# Altium integrated library TI Amplifiers and Linear Operational Amplifier High Speed.IntLib: 1100 symbols (part 13 of 44)
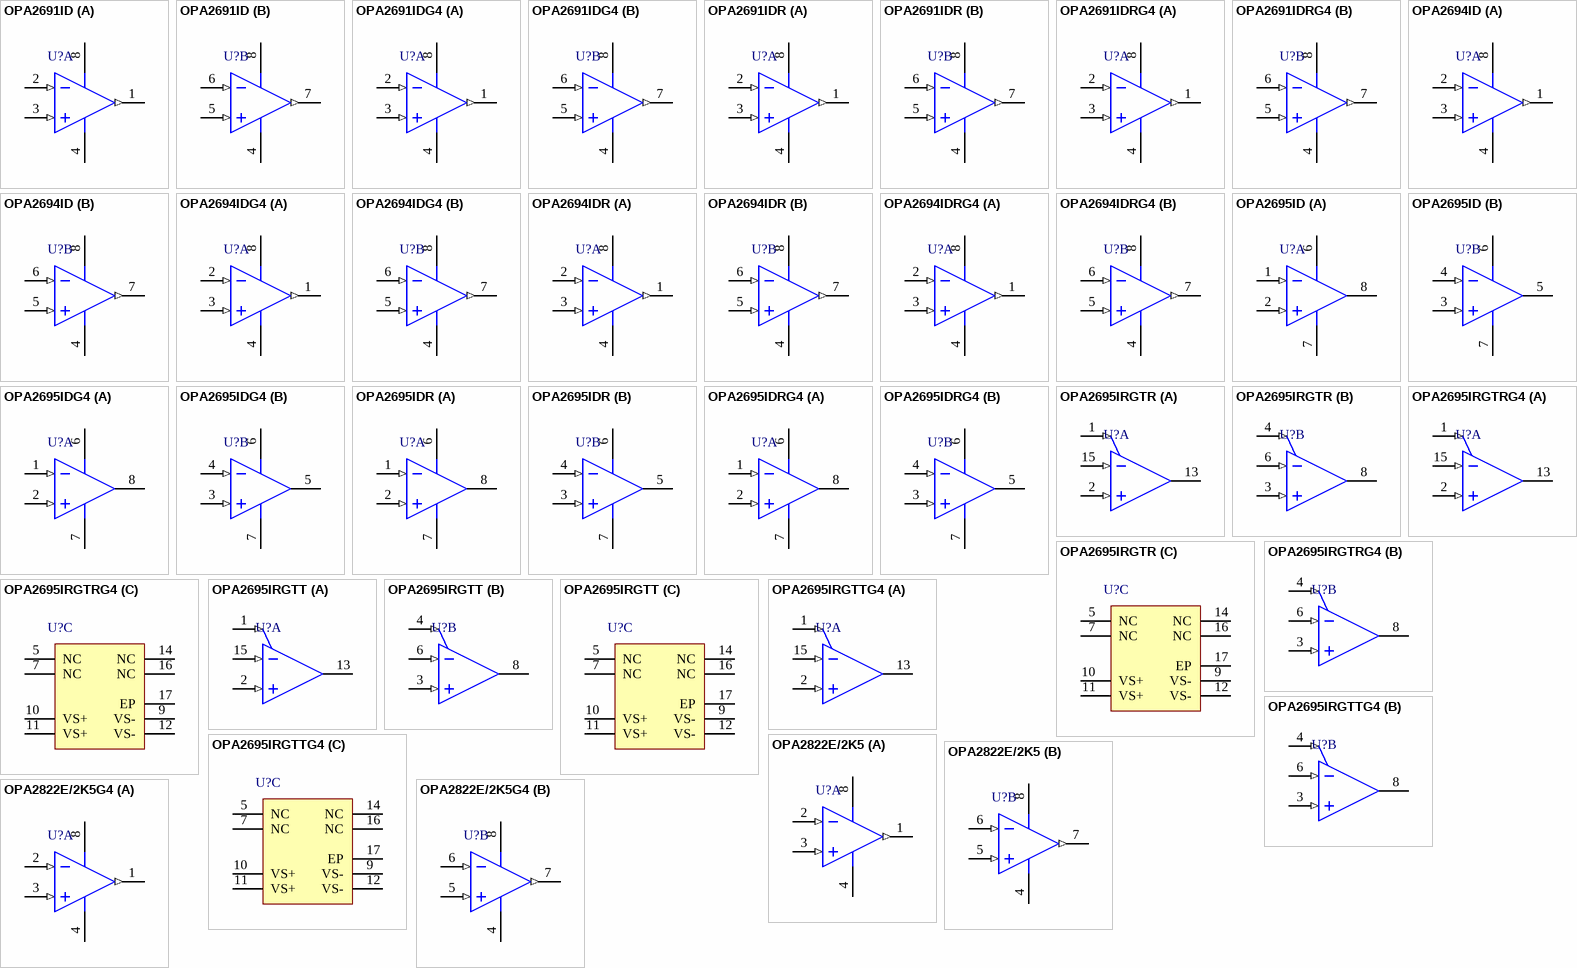
[diagram p63: symbols OPA2691ID to OPA2822E/2K5G4]

## OPA2695IDG4
designator U?
Ultra-Wideband, Current-Feedback Operational Amplifier with Disable, 3.6 to 12 V, -40 to 85 degC, 8-pin SOIC (D8), Green (RoHS & no Sb/Br); Manufacturer: Texas Instruments; PartNumber: OPA2695IDG4; 2nd Harmonic(dBc): 78; 3rd Harmonic(dBc): 81; @ MHz: 10; Acl, min stable gain(V/V): 1; BW @ Acl(MHz): 1100; Diff Gain(%): 0.01; Diff Phase(deg): 0.05; Iib(Max)(nA): 30000; Io(Typ)(mA): 120; Iq per channel(Max)(mA): 13.4; Number of Channels: 2; Slew Rate(Typ)(V/us): 2900; Sub Family: High Output Current Amplifier (>=50mA), High Speed Amplifier (>=50MHz); Vio(Max)(mV): 3.5; Vn at Flatband(Typ)(nV/rtHz): 1.8; Vs(Max)(V): 12; Vs(Min)(V): 3.6; DatasheetVersion: SBOS354A; PackageVersion: 4040047-3/M, 06/2011; PackageReference: D8; PackageDescription: 8-Pin Plastic Small Outline, Body 4.9 x 3.9 mm, Pitch 1.27 mm; Supplier 1: Digi-Key; Supplier Part Number 1: OPA2695IDG4-ND; Supplier 2: Mouser; Supplier Part Number 2: 595-OPA2695IDG4; Eco-Plan: Green (RoHS & no Sb/Br); Settling Time (0.1%)(Typ)(ns): 10; Mounting Technology: Surface Mount; Code_JEDEC: MS-012; ComponentLink1Description: Manufacturer URL; ComponentLink1URL: http://www.ti.com/; ComponentLink2Description: Datasheet; ComponentLink2URL: http://www.ti.com/general/docs/lit/getliterature.tsp?genericPartNumber=OPA2695&fileType=pdf; ComponentLink3Description: Package Specification; ComponentLink3URL: http://www.ti.com/litv/pdf/msoi002j
footprint TI-D8_N (SOIC, 8-Leads, Body 4.9x3.9mm, Pitch 1.27mm, IPC Medium Density)
footprint TI-D8_L (SOIC, 8-Leads, Body 4.9x3.9mm, Pitch 1.27mm, IPC High Density)
footprint TI-D8_M (SOIC, 8-Leads, Body 4.9x3.9mm, Pitch 1.27mm, IPC Low Density)
pins on every part: 6 VS+ (power), 7 VS- (power)
part A pins: 1 IN A- (in), 2 IN A+ (in), 8 OUT A (hiz)
part B pins: 3 IN B+ (in), 4 IN B- (in), 5 OUT B (hiz)

## OPA2695IDR
designator U?
Ultra-Wideband, Current-Feedback Operational Amplifier with Disable, 3.6 to 12 V, -40 to 85 degC, 8-pin SOIC (D8), Green (RoHS & no Sb/Br); Manufacturer: Texas Instruments; PartNumber: OPA2695IDR; 2nd Harmonic(dBc): 78; 3rd Harmonic(dBc): 81; @ MHz: 10; Acl, min stable gain(V/V): 1; BW @ Acl(MHz): 1100; Diff Gain(%): 0.01; Diff Phase(deg): 0.05; Iib(Max)(nA): 30000; Io(Typ)(mA): 120; Iq per channel(Max)(mA): 13.4; Number of Channels: 2; Slew Rate(Typ)(V/us): 2900; Sub Family: High Output Current Amplifier (>=50mA), High Speed Amplifier (>=50MHz); Vio(Max)(mV): 3.5; Vn at Flatband(Typ)(nV/rtHz): 1.8; Vs(Max)(V): 12; Vs(Min)(V): 3.6; DatasheetVersion: SBOS354A; PackageVersion: 4040047-3/M, 06/2011; PackageReference: D8; PackageDescription: 8-Pin Plastic Small Outline, Body 4.9 x 3.9 mm, Pitch 1.27 mm; Supplier 1: Digi-Key; Supplier Part Number 1: OPA2695IDR-ND; Supplier 2: Mouser; Supplier Part Number 2: 595-OPA2695IDR; Eco-Plan: Green (RoHS & no Sb/Br); Settling Time (0.1%)(Typ)(ns): 10; Mounting Technology: Surface Mount; Code_JEDEC: MS-012; ComponentLink1Description: Manufacturer URL; ComponentLink1URL: http://www.ti.com/; ComponentLink2Description: Datasheet; ComponentLink2URL: http://www.ti.com/general/docs/lit/getliterature.tsp?genericPartNumber=OPA2695&fileType=pdf; ComponentLink3Description: Package Specification; ComponentLink3URL: http://www.ti.com/litv/pdf/msoi002j
footprint TI-D8_N (SOIC, 8-Leads, Body 4.9x3.9mm, Pitch 1.27mm, IPC Medium Density)
footprint TI-D8_L (SOIC, 8-Leads, Body 4.9x3.9mm, Pitch 1.27mm, IPC High Density)
footprint TI-D8_M (SOIC, 8-Leads, Body 4.9x3.9mm, Pitch 1.27mm, IPC Low Density)
pins on every part: 6 VS+ (power), 7 VS- (power)
part A pins: 1 IN A- (in), 2 IN A+ (in), 8 OUT A (hiz)
part B pins: 3 IN B+ (in), 4 IN B- (in), 5 OUT B (hiz)

## OPA2695IDRG4
designator U?
Ultra-Wideband, Current-Feedback Operational Amplifier with Disable, 3.6 to 12 V, -40 to 85 degC, 8-pin SOIC (D8), Green (RoHS & no Sb/Br); Manufacturer: Texas Instruments; PartNumber: OPA2695IDRG4; 2nd Harmonic(dBc): 78; 3rd Harmonic(dBc): 81; @ MHz: 10; Acl, min stable gain(V/V): 1; BW @ Acl(MHz): 1100; Diff Gain(%): 0.01; Diff Phase(deg): 0.05; Iib(Max)(nA): 30000; Io(Typ)(mA): 120; Iq per channel(Max)(mA): 13.4; Number of Channels: 2; Slew Rate(Typ)(V/us): 2900; Sub Family: High Output Current Amplifier (>=50mA), High Speed Amplifier (>=50MHz); Vio(Max)(mV): 3.5; Vn at Flatband(Typ)(nV/rtHz): 1.8; Vs(Max)(V): 12; Vs(Min)(V): 3.6; DatasheetVersion: SBOS354A; PackageVersion: 4040047-3/M, 06/2011; PackageReference: D8; PackageDescription: 8-Pin Plastic Small Outline, Body 4.9 x 3.9 mm, Pitch 1.27 mm; Supplier 1: Digi-Key; Supplier Part Number 1: OPA2695IDRG4-ND; Supplier 2: Mouser; Supplier Part Number 2: 595-OPA2695IDRG4; Eco-Plan: Green (RoHS & no Sb/Br); Settling Time (0.1%)(Typ)(ns): 10; Mounting Technology: Surface Mount; Code_JEDEC: MS-012; ComponentLink1Description: Manufacturer URL; ComponentLink1URL: http://www.ti.com/; ComponentLink2Description: Datasheet; ComponentLink2URL: http://www.ti.com/general/docs/lit/getliterature.tsp?genericPartNumber=OPA2695&fileType=pdf; ComponentLink3Description: Package Specification; ComponentLink3URL: http://www.ti.com/litv/pdf/msoi002j
footprint TI-D8_N (SOIC, 8-Leads, Body 4.9x3.9mm, Pitch 1.27mm, IPC Medium Density)
footprint TI-D8_L (SOIC, 8-Leads, Body 4.9x3.9mm, Pitch 1.27mm, IPC High Density)
footprint TI-D8_M (SOIC, 8-Leads, Body 4.9x3.9mm, Pitch 1.27mm, IPC Low Density)
pins on every part: 6 VS+ (power), 7 VS- (power)
part A pins: 1 IN A- (in), 2 IN A+ (in), 8 OUT A (hiz)
part B pins: 3 IN B+ (in), 4 IN B- (in), 5 OUT B (hiz)

## OPA2695IRGTR
designator U?
Ultra-Wideband, Current-Feedback Operational Amplifier with Disable, 3.6 to 12 V, -40 to 85 degC, 16-pin QFN (RGT16), Green (RoHS & no Sb/Br); Manufacturer: Texas Instruments; PartNumber: OPA2695IRGTR; 2nd Harmonic(dBc): 78; 3rd Harmonic(dBc): 81; @ MHz: 10; Acl, min stable gain(V/V): 1; BW @ Acl(MHz): 1100; Diff Gain(%): 0.01; Diff Phase(deg): 0.05; Iib(Max)(nA): 30000; Io(Typ)(mA): 120; Iq per channel(Max)(mA): 13.4; Number of Channels: 2; Slew Rate(Typ)(V/us): 2900; Sub Family: High Output Current Amplifier (>=50mA), High Speed Amplifier (>=50MHz); Vio(Max)(mV): 3.5; Vn at Flatband(Typ)(nV/rtHz): 1.8; Vs(Max)(V): 12; Vs(Min)(V): 3.6; DatasheetVersion: SBOS354A; PackageVersion: 4203495/H, 10/2011; PackageReference: RGT16-1450X1450TP; PackageDescription: 16-Pin Plastic Flat Pack, Body 3 x 3 mm, Pitch 0.5 mm; Supplier 1: Digi-Key; Supplier Part Number 1: OPA2695IRGTR-ND; Supplier 2: Mouser; Supplier Part Number 2: 595-OPA2695IRGTR; Eco-Plan: Green (RoHS & no Sb/Br); Settling Time (0.1%)(Typ)(ns): 10; Mounting Technology: Surface Mount; Code_JEDEC: MO-220; ComponentLink1Description: Manufacturer URL; ComponentLink1URL: http://www.ti.com/; ComponentLink2Description: Datasheet; ComponentLink2URL: http://www.ti.com/general/docs/lit/getliterature.tsp?genericPartNumber=OPA2695&fileType=pdf; ComponentLink3Description: Package Specification; ComponentLink3URL: http://www.ti.com/litv/pdf/mpqf119g
footprint TI-RGT16-1450X1450TP_V (QFN, 16-Leads, Body 3x3mm, Pitch 0.5mm, Thermal Pad 1.45x1.45mm)
part A pins: 1 ~{DIS A} (in), 2 IN A+ (in), 13 OUT A (hiz), 15 IN A- (in)
part B pins: 3 IN B+ (in), 4 ~{DIS B} (in), 6 IN B- (in), 8 OUT B (hiz)
part C pins: 5 NC, 7 NC, 9 VS- (power), 10 VS+ (power), 11 VS+ (power), 12 VS- (power), 14 NC, 16 NC, 17 EP

## OPA2695IRGTRG4
designator U?
Ultra-Wideband, Current-Feedback Operational Amplifier with Disable, 3.6 to 12 V, -40 to 85 degC, 16-pin QFN (RGT16), Green (RoHS & no Sb/Br); Manufacturer: Texas Instruments; PartNumber: OPA2695IRGTRG4; 2nd Harmonic(dBc): 78; 3rd Harmonic(dBc): 81; @ MHz: 10; Acl, min stable gain(V/V): 1; BW @ Acl(MHz): 1100; Diff Gain(%): 0.01; Diff Phase(deg): 0.05; Iib(Max)(nA): 30000; Io(Typ)(mA): 120; Iq per channel(Max)(mA): 13.4; Number of Channels: 2; Slew Rate(Typ)(V/us): 2900; Sub Family: High Output Current Amplifier (>=50mA), High Speed Amplifier (>=50MHz); Vio(Max)(mV): 3.5; Vn at Flatband(Typ)(nV/rtHz): 1.8; Vs(Max)(V): 12; Vs(Min)(V): 3.6; DatasheetVersion: SBOS354A; PackageVersion: 4203495/H, 10/2011; PackageReference: RGT16-1450X1450TP; PackageDescription: 16-Pin Plastic Flat Pack, Body 3 x 3 mm, Pitch 0.5 mm; Supplier 1: Digi-Key; Supplier Part Number 1: OPA2695IRGTRG4-ND; Supplier 2: Mouser; Supplier Part Number 2: 595-OPA2695IRGTRG4; Eco-Plan: Green (RoHS & no Sb/Br); Settling Time (0.1%)(Typ)(ns): 10; Mounting Technology: Surface Mount; Code_JEDEC: MO-220; ComponentLink1Description: Manufacturer URL; ComponentLink1URL: http://www.ti.com/; ComponentLink2Description: Datasheet; ComponentLink2URL: http://www.ti.com/general/docs/lit/getliterature.tsp?genericPartNumber=OPA2695&fileType=pdf; ComponentLink3Description: Package Specification; ComponentLink3URL: http://www.ti.com/litv/pdf/mpqf119g
footprint TI-RGT16-1450X1450TP_V (QFN, 16-Leads, Body 3x3mm, Pitch 0.5mm, Thermal Pad 1.45x1.45mm)
part A pins: 1 ~{DIS A} (in), 2 IN A+ (in), 13 OUT A (hiz), 15 IN A- (in)
part B pins: 3 IN B+ (in), 4 ~{DIS B} (in), 6 IN B- (in), 8 OUT B (hiz)
part C pins: 5 NC, 7 NC, 9 VS- (power), 10 VS+ (power), 11 VS+ (power), 12 VS- (power), 14 NC, 16 NC, 17 EP

## OPA2695IRGTT
designator U?
Ultra-Wideband, Current-Feedback Operational Amplifier with Disable, 3.6 to 12 V, -40 to 85 degC, 16-pin QFN (RGT16), Green (RoHS & no Sb/Br); Manufacturer: Texas Instruments; PartNumber: OPA2695IRGTT; 2nd Harmonic(dBc): 78; 3rd Harmonic(dBc): 81; @ MHz: 10; Acl, min stable gain(V/V): 1; BW @ Acl(MHz): 1100; Diff Gain(%): 0.01; Diff Phase(deg): 0.05; Iib(Max)(nA): 30000; Io(Typ)(mA): 120; Iq per channel(Max)(mA): 13.4; Number of Channels: 2; Slew Rate(Typ)(V/us): 2900; Sub Family: High Output Current Amplifier (>=50mA), High Speed Amplifier (>=50MHz); Vio(Max)(mV): 3.5; Vn at Flatband(Typ)(nV/rtHz): 1.8; Vs(Max)(V): 12; Vs(Min)(V): 3.6; DatasheetVersion: SBOS354A; PackageVersion: 4203495/H, 10/2011; PackageReference: RGT16-1450X1450TP; PackageDescription: 16-Pin Plastic Flat Pack, Body 3 x 3 mm, Pitch 0.5 mm; Supplier 1: Digi-Key; Supplier Part Number 1: 296-23388-2-ND; Supplier 2: Digi-Key; Supplier Part Number 2: 296-23388-1-ND; Supplier 3: Digi-Key; Supplier Part Number 3: 296-23388-6-ND; Supplier 4: Mouser; Supplier Part Number 4: 595-OPA2695IRGTT; Eco-Plan: Green (RoHS & no Sb/Br); Settling Time (0.1%)(Typ)(ns): 10; Mounting Technology: Surface Mount; Code_JEDEC: MO-220; ComponentLink1Description: Manufacturer URL; ComponentLink1URL: http://www.ti.com/; ComponentLink2Description: Datasheet; ComponentLink2URL: http://www.ti.com/general/docs/lit/getliterature.tsp?genericPartNumber=OPA2695&fileType=pdf; ComponentLink3Description: Package Specification; ComponentLink3URL: http://www.ti.com/litv/pdf/mpqf119g
footprint TI-RGT16-1450X1450TP_V (QFN, 16-Leads, Body 3x3mm, Pitch 0.5mm, Thermal Pad 1.45x1.45mm)
part A pins: 1 ~{DIS A} (in), 2 IN A+ (in), 13 OUT A (hiz), 15 IN A- (in)
part B pins: 3 IN B+ (in), 4 ~{DIS B} (in), 6 IN B- (in), 8 OUT B (hiz)
part C pins: 5 NC, 7 NC, 9 VS- (power), 10 VS+ (power), 11 VS+ (power), 12 VS- (power), 14 NC, 16 NC, 17 EP

## OPA2695IRGTTG4
designator U?
Ultra-Wideband, Current-Feedback Operational Amplifier with Disable, 3.6 to 12 V, -40 to 85 degC, 16-pin QFN (RGT16), Green (RoHS & no Sb/Br); Manufacturer: Texas Instruments; PartNumber: OPA2695IRGTTG4; 2nd Harmonic(dBc): 78; 3rd Harmonic(dBc): 81; @ MHz: 10; Acl, min stable gain(V/V): 1; BW @ Acl(MHz): 1100; Diff Gain(%): 0.01; Diff Phase(deg): 0.05; Iib(Max)(nA): 30000; Io(Typ)(mA): 120; Iq per channel(Max)(mA): 13.4; Number of Channels: 2; Slew Rate(Typ)(V/us): 2900; Sub Family: High Output Current Amplifier (>=50mA), High Speed Amplifier (>=50MHz); Vio(Max)(mV): 3.5; Vn at Flatband(Typ)(nV/rtHz): 1.8; Vs(Max)(V): 12; Vs(Min)(V): 3.6; DatasheetVersion: SBOS354A; PackageVersion: 4203495/H, 10/2011; PackageReference: RGT16-1450X1450TP; PackageDescription: 16-Pin Plastic Flat Pack, Body 3 x 3 mm, Pitch 0.5 mm; Supplier 1: Digi-Key; Supplier Part Number 1: OPA2695IRGTTG4-ND; Supplier 2: Mouser; Supplier Part Number 2: 595-OPA2695IRGTTG4; Eco-Plan: Green (RoHS & no Sb/Br); Settling Time (0.1%)(Typ)(ns): 10; Mounting Technology: Surface Mount; Code_JEDEC: MO-220; ComponentLink1Description: Manufacturer URL; ComponentLink1URL: http://www.ti.com/; ComponentLink2Description: Datasheet; ComponentLink2URL: http://www.ti.com/general/docs/lit/getliterature.tsp?genericPartNumber=OPA2695&fileType=pdf; ComponentLink3Description: Package Specification; ComponentLink3URL: http://www.ti.com/litv/pdf/mpqf119g
footprint TI-RGT16-1450X1450TP_V (QFN, 16-Leads, Body 3x3mm, Pitch 0.5mm, Thermal Pad 1.45x1.45mm)
part A pins: 1 ~{DIS A} (in), 2 IN A+ (in), 13 OUT A (hiz), 15 IN A- (in)
part B pins: 3 IN B+ (in), 4 ~{DIS B} (in), 6 IN B- (in), 8 OUT B (hiz)
part C pins: 5 NC, 7 NC, 9 VS- (power), 10 VS+ (power), 11 VS+ (power), 12 VS- (power), 14 NC, 16 NC, 17 EP

## OPA2822E/2K5
designator U?
SpeedPlus Dual Wideband, Low-Noise Operational Amplifier, 5 to 12 V, -40 to 85 degC, 8-pin SOP (DGK8), Green (RoHS & no Sb/Br); Manufacturer: Texas Instruments; PartNumber: OPA2822E/2K5; 2nd Harmonic(dBc): 95; 3rd Harmonic(dBc): 105; @ MHz: 1; BW @ Acl(MHz): 200; Diff Gain(%): 0.02; Diff Phase(deg): 0.03; Iib(Max)(nA): 21000; Io(Typ)(mA): 150; Iq per channel(Max)(mA): 4.8; Number of Channels: 2; Settling Time (0.1%)(Typ)(ns): 32; Slew Rate(Typ)(V/us): 170; Sub Family: High Output Current Amplifier (>=50mA), High Speed Amplifier (>=50MHz); THD (Fc is 1 MHz)(Typ)(dB): -90; Vio(Max)(mV): 1.2; Vs(Max)(V): 12; Vs(Min)(V): 5; DatasheetVersion: SBOS188E; PackageVersion: 4073329/E, 05/2006; PackageReference: DGK8; PackageDescription: 8-Pin Thin Small Outline, Body 3 x 3 mm, Pitch 0.65 mm; Supplier 1: Digi-Key; Supplier Part Number 1: OPA2822E/2K5-ND; Supplier 2: Mouser; Supplier Part Number 2: 595-OPA2822E/2K5; Acl, min stable gain(V/V): 1; Eco-Plan: Green (RoHS & no Sb/Br); Vn at Flatband(Typ)(nV/rtHz): 2; Mounting Technology: Surface Mount; Code_JEDEC: MO-187; ComponentLink1Description: Manufacturer URL; ComponentLink1URL: http://www.ti.com/; ComponentLink2Description: Datasheet; ComponentLink2URL: http://www.ti.com/general/docs/lit/getliterature.tsp?genericPartNumber=OPA2822&fileType=pdf; ComponentLink3Description: Package Specification; ComponentLink3URL: http://www.ti.com/litv/pdf/mpds028d
footprint TI-DGK8_N (SOP, 8-Leads, Body 3x3mm, Pitch 0.65mm, IPC Medium Density)
footprint TI-DGK8_L (SOP, 8-Leads, Body 3x3mm, Pitch 0.65mm, IPC High Density)
footprint TI-DGK8_M (SOP, 8-Leads, Body 3x3mm, Pitch 0.65mm, IPC Low Density)
pins on every part: 4 VS- (power), 8 VS+ (power)
part A pins: 1 OUT A (out), 2 IN A- (in), 3 IN A+ (in)
part B pins: 5 IN B+ (in), 6 IN B- (in), 7 OUT B (out)

## OPA2822E/2K5G4
designator U?
SpeedPlus Dual Wideband, Low-Noise Operational Amplifier, 5 to 12 V, -40 to 85 degC, 8-pin SOP (DGK8), Green (RoHS & no Sb/Br); Manufacturer: Texas Instruments; PartNumber: OPA2822E/2K5G4; 2nd Harmonic(dBc): 95; 3rd Harmonic(dBc): 105; @ MHz: 1; BW @ Acl(MHz): 200; Diff Gain(%): 0.02; Diff Phase(deg): 0.03; Iib(Max)(nA): 21000; Io(Typ)(mA): 150; Iq per channel(Max)(mA): 4.8; Number of Channels: 2; Settling Time (0.1%)(Typ)(ns): 32; Slew Rate(Typ)(V/us): 170; Sub Family: High Output Current Amplifier (>=50mA), High Speed Amplifier (>=50MHz); THD (Fc is 1 MHz)(Typ)(dB): -90; Vio(Max)(mV): 1.2; Vs(Max)(V): 12; Vs(Min)(V): 5; DatasheetVersion: SBOS188E; PackageVersion: 4073329/E, 05/2006; PackageReference: DGK8; PackageDescription: 8-Pin Thin Small Outline, Body 3 x 3 mm, Pitch 0.65 mm; Supplier 1: Digi-Key; Supplier Part Number 1: OPA2822E/2K5G4-ND; Supplier 2: Mouser; Supplier Part Number 2: 595-OPA2822E/2K5G4; Acl, min stable gain(V/V): 1; Eco-Plan: Green (RoHS & no Sb/Br); Vn at Flatband(Typ)(nV/rtHz): 2; Mounting Technology: Surface Mount; Code_JEDEC: MO-187; ComponentLink1Description: Manufacturer URL; ComponentLink1URL: http://www.ti.com/; ComponentLink2Description: Datasheet; ComponentLink2URL: http://www.ti.com/general/docs/lit/getliterature.tsp?genericPartNumber=OPA2822&fileType=pdf; ComponentLink3Description: Package Specification; ComponentLink3URL: http://www.ti.com/litv/pdf/mpds028d
footprint TI-DGK8_N (SOP, 8-Leads, Body 3x3mm, Pitch 0.65mm, IPC Medium Density)
footprint TI-DGK8_L (SOP, 8-Leads, Body 3x3mm, Pitch 0.65mm, IPC High Density)
footprint TI-DGK8_M (SOP, 8-Leads, Body 3x3mm, Pitch 0.65mm, IPC Low Density)
pins on every part: 4 VS- (power), 8 VS+ (power)
part A pins: 1 OUT A (out), 2 IN A- (in), 3 IN A+ (in)
part B pins: 5 IN B+ (in), 6 IN B- (in), 7 OUT B (out)

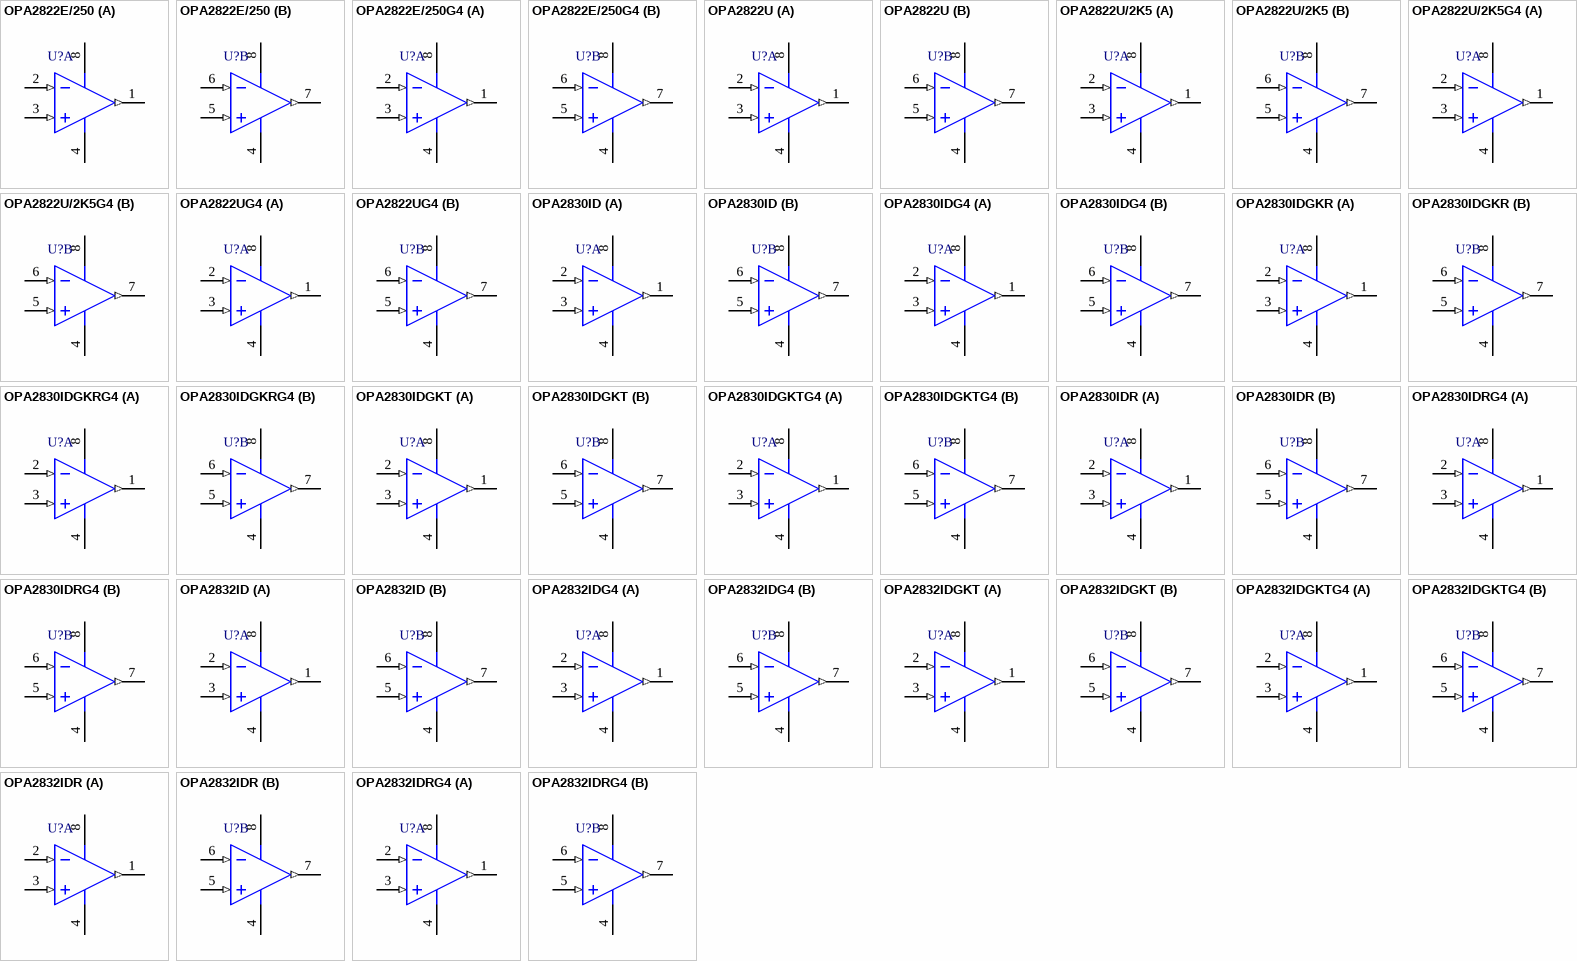
[diagram p13: symbols OPA2822E/250 to OPA2832IDRG4]

## OPA2822E/250
designator U?
SpeedPlus Dual Wideband, Low-Noise Operational Amplifier, 5 to 12 V, -40 to 85 degC, 8-pin SOP (DGK8), Green (RoHS & no Sb/Br); Manufacturer: Texas Instruments; PartNumber: OPA2822E/250; 2nd Harmonic(dBc): 95; 3rd Harmonic(dBc): 105; @ MHz: 1; BW @ Acl(MHz): 200; Diff Gain(%): 0.02; Diff Phase(deg): 0.03; Iib(Max)(nA): 21000; Io(Typ)(mA): 150; Iq per channel(Max)(mA): 4.8; Number of Channels: 2; Settling Time (0.1%)(Typ)(ns): 32; Slew Rate(Typ)(V/us): 170; Sub Family: High Output Current Amplifier (>=50mA), High Speed Amplifier (>=50MHz); THD (Fc is 1 MHz)(Typ)(dB): -90; Vio(Max)(mV): 1.2; Vs(Max)(V): 12; Vs(Min)(V): 5; DatasheetVersion: SBOS188E; PackageVersion: 4073329/E, 05/2006; PackageReference: DGK8; PackageDescription: 8-Pin Thin Small Outline, Body 3 x 3 mm, Pitch 0.65 mm; Supplier 1: Digi-Key; Supplier Part Number 1: 296-12984-2-ND; Supplier 2: Digi-Key; Supplier Part Number 2: 296-12984-1-ND; Supplier 3: Digi-Key; Supplier Part Number 3: 296-12984-6-ND; Supplier 4: Newark; Supplier Part Number 4: 75C4829; Supplier 5: Mouser; Supplier Part Number 5: 595-OPA2822E/250; Acl, min stable gain(V/V): 1; Eco-Plan: Green (RoHS & no Sb/Br); Vn at Flatband(Typ)(nV/rtHz): 2; Mounting Technology: Surface Mount; Code_JEDEC: MO-187; ComponentLink1Description: Manufacturer URL; ComponentLink1URL: http://www.ti.com/; ComponentLink2Description: Datasheet; ComponentLink2URL: http://www.ti.com/general/docs/lit/getliterature.tsp?genericPartNumber=OPA2822&fileType=pdf; ComponentLink3Description: Package Specification; ComponentLink3URL: http://www.ti.com/litv/pdf/mpds028d
footprint TI-DGK8_N (SOP, 8-Leads, Body 3x3mm, Pitch 0.65mm, IPC Medium Density)
footprint TI-DGK8_L (SOP, 8-Leads, Body 3x3mm, Pitch 0.65mm, IPC High Density)
footprint TI-DGK8_M (SOP, 8-Leads, Body 3x3mm, Pitch 0.65mm, IPC Low Density)
pins on every part: 4 VS- (power), 8 VS+ (power)
part A pins: 1 OUT A (out), 2 IN A- (in), 3 IN A+ (in)
part B pins: 5 IN B+ (in), 6 IN B- (in), 7 OUT B (out)

## OPA2822E/250G4
designator U?
SpeedPlus Dual Wideband, Low-Noise Operational Amplifier, 5 to 12 V, -40 to 85 degC, 8-pin SOP (DGK8), Green (RoHS & no Sb/Br); Manufacturer: Texas Instruments; PartNumber: OPA2822E/250G4; 2nd Harmonic(dBc): 95; 3rd Harmonic(dBc): 105; @ MHz: 1; BW @ Acl(MHz): 200; Diff Gain(%): 0.02; Diff Phase(deg): 0.03; Iib(Max)(nA): 21000; Io(Typ)(mA): 150; Iq per channel(Max)(mA): 4.8; Number of Channels: 2; Settling Time (0.1%)(Typ)(ns): 32; Slew Rate(Typ)(V/us): 170; Sub Family: High Output Current Amplifier (>=50mA), High Speed Amplifier (>=50MHz); THD (Fc is 1 MHz)(Typ)(dB): -90; Vio(Max)(mV): 1.2; Vs(Max)(V): 12; Vs(Min)(V): 5; DatasheetVersion: SBOS188E; PackageVersion: 4073329/E, 05/2006; PackageReference: DGK8; PackageDescription: 8-Pin Thin Small Outline, Body 3 x 3 mm, Pitch 0.65 mm; Supplier 1: Digi-Key; Supplier Part Number 1: OPA2822E/250G4-ND; Supplier 2: Mouser; Supplier Part Number 2: 595-OPA2822E/250G4; Acl, min stable gain(V/V): 1; Eco-Plan: Green (RoHS & no Sb/Br); Vn at Flatband(Typ)(nV/rtHz): 2; Mounting Technology: Surface Mount; Code_JEDEC: MO-187; ComponentLink1Description: Manufacturer URL; ComponentLink1URL: http://www.ti.com/; ComponentLink2Description: Datasheet; ComponentLink2URL: http://www.ti.com/general/docs/lit/getliterature.tsp?genericPartNumber=OPA2822&fileType=pdf; ComponentLink3Description: Package Specification; ComponentLink3URL: http://www.ti.com/litv/pdf/mpds028d
footprint TI-DGK8_N (SOP, 8-Leads, Body 3x3mm, Pitch 0.65mm, IPC Medium Density)
footprint TI-DGK8_L (SOP, 8-Leads, Body 3x3mm, Pitch 0.65mm, IPC High Density)
footprint TI-DGK8_M (SOP, 8-Leads, Body 3x3mm, Pitch 0.65mm, IPC Low Density)
pins on every part: 4 VS- (power), 8 VS+ (power)
part A pins: 1 OUT A (out), 2 IN A- (in), 3 IN A+ (in)
part B pins: 5 IN B+ (in), 6 IN B- (in), 7 OUT B (out)

## OPA2822U
designator U?
SpeedPlus Dual Wideband, Low-Noise Operational Amplifier, 5 to 12 V, -40 to 85 degC, 8-pin SOIC (D8), Green (RoHS & no Sb/Br); Manufacturer: Texas Instruments; PartNumber: OPA2822U; 2nd Harmonic(dBc): 95; 3rd Harmonic(dBc): 105; @ MHz: 1; BW @ Acl(MHz): 200; Diff Gain(%): 0.02; Diff Phase(deg): 0.03; Iib(Max)(nA): 21000; Io(Typ)(mA): 150; Iq per channel(Max)(mA): 4.8; Number of Channels: 2; Settling Time (0.1%)(Typ)(ns): 32; Slew Rate(Typ)(V/us): 170; Sub Family: High Output Current Amplifier (>=50mA), High Speed Amplifier (>=50MHz); THD (Fc is 1 MHz)(Typ)(dB): -90; Vio(Max)(mV): 1.2; Vs(Max)(V): 12; Vs(Min)(V): 5; DatasheetVersion: SBOS188E; PackageVersion: 4040047-3/M, 06/2011; PackageReference: D8; PackageDescription: 8-Pin Plastic Small Outline, Body 4.9 x 3.9 mm, Pitch 1.27 mm; Supplier 1: Digi-Key; Supplier Part Number 1: 296-9623-5-ND; Supplier 2: Newark; Supplier Part Number 2: 39C7278; Supplier 3: Mouser; Supplier Part Number 3: 595-OPA2822U; Acl, min stable gain(V/V): 1; Eco-Plan: Green (RoHS & no Sb/Br); Vn at Flatband(Typ)(nV/rtHz): 2; Mounting Technology: Surface Mount; Code_JEDEC: MS-012; ComponentLink1Description: Manufacturer URL; ComponentLink1URL: http://www.ti.com/; ComponentLink2Description: Datasheet; ComponentLink2URL: http://www.ti.com/general/docs/lit/getliterature.tsp?genericPartNumber=OPA2822&fileType=pdf; ComponentLink3Description: Package Specification; ComponentLink3URL: http://www.ti.com/litv/pdf/msoi002j
footprint TI-D8_N (SOIC, 8-Leads, Body 4.9x3.9mm, Pitch 1.27mm, IPC Medium Density)
footprint TI-D8_L (SOIC, 8-Leads, Body 4.9x3.9mm, Pitch 1.27mm, IPC High Density)
footprint TI-D8_M (SOIC, 8-Leads, Body 4.9x3.9mm, Pitch 1.27mm, IPC Low Density)
pins on every part: 4 VS- (power), 8 VS+ (power)
part A pins: 1 OUT A (out), 2 IN A- (in), 3 IN A+ (in)
part B pins: 5 IN B+ (in), 6 IN B- (in), 7 OUT B (out)

## OPA2822U/2K5
designator U?
SpeedPlus Dual Wideband, Low-Noise Operational Amplifier, 5 to 12 V, -40 to 85 degC, 8-pin SOIC (D8), Green (RoHS & no Sb/Br); Manufacturer: Texas Instruments; PartNumber: OPA2822U/2K5; 2nd Harmonic(dBc): 95; 3rd Harmonic(dBc): 105; @ MHz: 1; BW @ Acl(MHz): 200; Diff Gain(%): 0.02; Diff Phase(deg): 0.03; Iib(Max)(nA): 21000; Io(Typ)(mA): 150; Iq per channel(Max)(mA): 4.8; Number of Channels: 2; Settling Time (0.1%)(Typ)(ns): 32; Slew Rate(Typ)(V/us): 170; Sub Family: High Output Current Amplifier (>=50mA), High Speed Amplifier (>=50MHz); THD (Fc is 1 MHz)(Typ)(dB): -90; Vio(Max)(mV): 1.2; Vs(Max)(V): 12; Vs(Min)(V): 5; DatasheetVersion: SBOS188E; PackageVersion: 4040047-3/M, 06/2011; PackageReference: D8; PackageDescription: 8-Pin Plastic Small Outline, Body 4.9 x 3.9 mm, Pitch 1.27 mm; Supplier 1: Digi-Key; Supplier Part Number 1: OPA2822U/2K5-ND; Supplier 2: Newark; Supplier Part Number 2: 75C4830; Supplier 3: Mouser; Supplier Part Number 3: 595-OPA2822U/2K5; Acl, min stable gain(V/V): 1; Eco-Plan: Green (RoHS & no Sb/Br); Vn at Flatband(Typ)(nV/rtHz): 2; Mounting Technology: Surface Mount; Code_JEDEC: MS-012; ComponentLink1Description: Manufacturer URL; ComponentLink1URL: http://www.ti.com/; ComponentLink2Description: Datasheet; ComponentLink2URL: http://www.ti.com/general/docs/lit/getliterature.tsp?genericPartNumber=OPA2822&fileType=pdf; ComponentLink3Description: Package Specification; ComponentLink3URL: http://www.ti.com/litv/pdf/msoi002j
footprint TI-D8_N (SOIC, 8-Leads, Body 4.9x3.9mm, Pitch 1.27mm, IPC Medium Density)
footprint TI-D8_L (SOIC, 8-Leads, Body 4.9x3.9mm, Pitch 1.27mm, IPC High Density)
footprint TI-D8_M (SOIC, 8-Leads, Body 4.9x3.9mm, Pitch 1.27mm, IPC Low Density)
pins on every part: 4 VS- (power), 8 VS+ (power)
part A pins: 1 OUT A (out), 2 IN A- (in), 3 IN A+ (in)
part B pins: 5 IN B+ (in), 6 IN B- (in), 7 OUT B (out)

## OPA2822U/2K5G4
designator U?
SpeedPlus Dual Wideband, Low-Noise Operational Amplifier, 5 to 12 V, -40 to 85 degC, 8-pin SOIC (D8), Green (RoHS & no Sb/Br); Manufacturer: Texas Instruments; PartNumber: OPA2822U/2K5G4; 2nd Harmonic(dBc): 95; 3rd Harmonic(dBc): 105; @ MHz: 1; BW @ Acl(MHz): 200; Diff Gain(%): 0.02; Diff Phase(deg): 0.03; Iib(Max)(nA): 21000; Io(Typ)(mA): 150; Iq per channel(Max)(mA): 4.8; Number of Channels: 2; Settling Time (0.1%)(Typ)(ns): 32; Slew Rate(Typ)(V/us): 170; Sub Family: High Output Current Amplifier (>=50mA), High Speed Amplifier (>=50MHz); THD (Fc is 1 MHz)(Typ)(dB): -90; Vio(Max)(mV): 1.2; Vs(Max)(V): 12; Vs(Min)(V): 5; DatasheetVersion: SBOS188E; PackageVersion: 4040047-3/M, 06/2011; PackageReference: D8; PackageDescription: 8-Pin Plastic Small Outline, Body 4.9 x 3.9 mm, Pitch 1.27 mm; Supplier 1: Digi-Key; Supplier Part Number 1: OPA2822U/2K5G4-ND; Supplier 2: Newark; Supplier Part Number 2: 85K1342; Supplier 3: Mouser; Supplier Part Number 3: 595-OPA2822U/2K5G4; Acl, min stable gain(V/V): 1; Eco-Plan: Green (RoHS & no Sb/Br); Vn at Flatband(Typ)(nV/rtHz): 2; Mounting Technology: Surface Mount; Code_JEDEC: MS-012; ComponentLink1Description: Manufacturer URL; ComponentLink1URL: http://www.ti.com/; ComponentLink2Description: Datasheet; ComponentLink2URL: http://www.ti.com/general/docs/lit/getliterature.tsp?genericPartNumber=OPA2822&fileType=pdf; ComponentLink3Description: Package Specification; ComponentLink3URL: http://www.ti.com/litv/pdf/msoi002j
footprint TI-D8_N (SOIC, 8-Leads, Body 4.9x3.9mm, Pitch 1.27mm, IPC Medium Density)
footprint TI-D8_L (SOIC, 8-Leads, Body 4.9x3.9mm, Pitch 1.27mm, IPC High Density)
footprint TI-D8_M (SOIC, 8-Leads, Body 4.9x3.9mm, Pitch 1.27mm, IPC Low Density)
pins on every part: 4 VS- (power), 8 VS+ (power)
part A pins: 1 OUT A (out), 2 IN A- (in), 3 IN A+ (in)
part B pins: 5 IN B+ (in), 6 IN B- (in), 7 OUT B (out)

## OPA2822UG4
designator U?
SpeedPlus Dual Wideband, Low-Noise Operational Amplifier, 5 to 12 V, -40 to 85 degC, 8-pin SOIC (D8), Green (RoHS & no Sb/Br); Manufacturer: Texas Instruments; PartNumber: OPA2822UG4; 2nd Harmonic(dBc): 95; 3rd Harmonic(dBc): 105; @ MHz: 1; BW @ Acl(MHz): 200; Diff Gain(%): 0.02; Diff Phase(deg): 0.03; Iib(Max)(nA): 21000; Io(Typ)(mA): 150; Iq per channel(Max)(mA): 4.8; Number of Channels: 2; Settling Time (0.1%)(Typ)(ns): 32; Slew Rate(Typ)(V/us): 170; Sub Family: High Output Current Amplifier (>=50mA), High Speed Amplifier (>=50MHz); THD (Fc is 1 MHz)(Typ)(dB): -90; Vio(Max)(mV): 1.2; Vs(Max)(V): 12; Vs(Min)(V): 5; DatasheetVersion: SBOS188E; PackageVersion: 4040047-3/M, 06/2011; PackageReference: D8; PackageDescription: 8-Pin Plastic Small Outline, Body 4.9 x 3.9 mm, Pitch 1.27 mm; Supplier 1: Digi-Key; Supplier Part Number 1: OPA2822UG4-ND; Supplier 2: Farnell; Supplier Part Number 2: 1207112; Supplier 3: Newark; Supplier Part Number 3: 97K6822; Supplier 4: Newark; Supplier Part Number 4: 67K8197; Supplier 5: Mouser; Supplier Part Number 5: 595-OPA2822UG4; Acl, min stable gain(V/V): 1; Eco-Plan: Green (RoHS & no Sb/Br); Vn at Flatband(Typ)(nV/rtHz): 2; Mounting Technology: Surface Mount; Code_JEDEC: MS-012; ComponentLink1Description: Manufacturer URL; ComponentLink1URL: http://www.ti.com/; ComponentLink2Description: Datasheet; ComponentLink2URL: http://www.ti.com/general/docs/lit/getliterature.tsp?genericPartNumber=OPA2822&fileType=pdf; ComponentLink3Description: Package Specification; ComponentLink3URL: http://www.ti.com/litv/pdf/msoi002j
footprint TI-D8_N (SOIC, 8-Leads, Body 4.9x3.9mm, Pitch 1.27mm, IPC Medium Density)
footprint TI-D8_L (SOIC, 8-Leads, Body 4.9x3.9mm, Pitch 1.27mm, IPC High Density)
footprint TI-D8_M (SOIC, 8-Leads, Body 4.9x3.9mm, Pitch 1.27mm, IPC Low Density)
pins on every part: 4 VS- (power), 8 VS+ (power)
part A pins: 1 OUT A (out), 2 IN A- (in), 3 IN A+ (in)
part B pins: 5 IN B+ (in), 6 IN B- (in), 7 OUT B (out)

## OPA2830ID
designator U?
Dual, Low-Power, Single-Supply Wideband Operational Amplifier, 3 to 11 V, -40 to 85 degC, 8-pin SOIC (D8), Green (RoHS & no Sb/Br); Manufacturer: Texas Instruments; PartNumber: OPA2830ID; Acl, min stable gain(V/V): 1; BW @ Acl(MHz): 230; Iib(Max)(nA): 10000; Io(Typ)(mA): 75; Iq per channel(Max)(mA): 3.9; Number of Channels: 2; Rail-Rail: Out; Slew Rate(Typ)(V/us): 500; Sub Family: High Output Current Amplifier (>=50mA), High Speed Amplifier (>=50MHz); Vio(Max)(mV): 5.5; Vn at Flatband(Typ)(nV/rtHz): 9.2; Vs(Max)(V): 11; Vs(Min)(V): 3; DatasheetVersion: SBOS309D; PackageVersion: 4040047-3/M, 06/2011; PackageReference: D8; PackageDescription: 8-Pin Plastic Small Outline, Body 4.9 x 3.9 mm, Pitch 1.27 mm; Supplier 1: Digi-Key; Supplier Part Number 1: 296-17957-5-ND; Supplier 2: Farnell; Supplier Part Number 2: 1408191; Supplier 3: Newark; Supplier Part Number 3: 31K7193; Supplier 4: Mouser; Supplier Part Number 4: 595-OPA2830ID; Eco-Plan: Green (RoHS & no Sb/Br); Mounting Technology: Surface Mount; Code_JEDEC: MS-012; ComponentLink1Description: Manufacturer URL; ComponentLink1URL: http://www.ti.com/; ComponentLink2Description: Datasheet; ComponentLink2URL: http://www.ti.com/general/docs/lit/getliterature.tsp?genericPartNumber=OPA2830&fileType=pdf; ComponentLink3Description: Package Specification; ComponentLink3URL: http://www.ti.com/litv/pdf/msoi002j
footprint TI-D8_N (SOIC, 8-Leads, Body 4.9x3.9mm, Pitch 1.27mm, IPC Medium Density)
footprint TI-D8_L (SOIC, 8-Leads, Body 4.9x3.9mm, Pitch 1.27mm, IPC High Density)
footprint TI-D8_M (SOIC, 8-Leads, Body 4.9x3.9mm, Pitch 1.27mm, IPC Low Density)
pins on every part: 4 VS- (power), 8 VS+ (power)
part A pins: 1 OUT1 (out), 2 IN1- (in), 3 IN1+ (in)
part B pins: 5 IN2+ (in), 6 IN2- (in), 7 OUT2 (out)

## OPA2830IDG4
designator U?
Dual, Low-Power, Single-Supply Wideband Operational Amplifier, 3 to 11 V, -40 to 85 degC, 8-pin SOIC (D8), Green (RoHS & no Sb/Br); Manufacturer: Texas Instruments; PartNumber: OPA2830IDG4; Acl, min stable gain(V/V): 1; BW @ Acl(MHz): 230; Iib(Max)(nA): 10000; Io(Typ)(mA): 75; Iq per channel(Max)(mA): 3.9; Number of Channels: 2; Rail-Rail: Out; Slew Rate(Typ)(V/us): 500; Sub Family: High Output Current Amplifier (>=50mA), High Speed Amplifier (>=50MHz); Vio(Max)(mV): 5.5; Vn at Flatband(Typ)(nV/rtHz): 9.2; Vs(Max)(V): 11; Vs(Min)(V): 3; DatasheetVersion: SBOS309D; PackageVersion: 4040047-3/M, 06/2011; PackageReference: D8; PackageDescription: 8-Pin Plastic Small Outline, Body 4.9 x 3.9 mm, Pitch 1.27 mm; Supplier 1: Digi-Key; Supplier Part Number 1: OPA2830IDG4-ND; Supplier 2: Mouser; Supplier Part Number 2: 595-OPA2830IDG4; Eco-Plan: Green (RoHS & no Sb/Br); Mounting Technology: Surface Mount; Code_JEDEC: MS-012; ComponentLink1Description: Manufacturer URL; ComponentLink1URL: http://www.ti.com/; ComponentLink2Description: Datasheet; ComponentLink2URL: http://www.ti.com/general/docs/lit/getliterature.tsp?genericPartNumber=OPA2830&fileType=pdf; ComponentLink3Description: Package Specification; ComponentLink3URL: http://www.ti.com/litv/pdf/msoi002j
footprint TI-D8_N (SOIC, 8-Leads, Body 4.9x3.9mm, Pitch 1.27mm, IPC Medium Density)
footprint TI-D8_L (SOIC, 8-Leads, Body 4.9x3.9mm, Pitch 1.27mm, IPC High Density)
footprint TI-D8_M (SOIC, 8-Leads, Body 4.9x3.9mm, Pitch 1.27mm, IPC Low Density)
pins on every part: 4 VS- (power), 8 VS+ (power)
part A pins: 1 OUT1 (out), 2 IN1- (in), 3 IN1+ (in)
part B pins: 5 IN2+ (in), 6 IN2- (in), 7 OUT2 (out)

## OPA2830IDGKR
designator U?
Dual, Low-Power, Single-Supply Wideband Operational Amplifier, 3 to 11 V, -40 to 85 degC, 8-pin SOP (DGK8), Green (RoHS & no Sb/Br); Manufacturer: Texas Instruments; PartNumber: OPA2830IDGKR; Acl, min stable gain(V/V): 1; BW @ Acl(MHz): 230; Iib(Max)(nA): 10000; Io(Typ)(mA): 75; Iq per channel(Max)(mA): 3.9; Number of Channels: 2; Rail-Rail: Out; Slew Rate(Typ)(V/us): 500; Sub Family: High Output Current Amplifier (>=50mA), High Speed Amplifier (>=50MHz); Vio(Max)(mV): 5.5; Vn at Flatband(Typ)(nV/rtHz): 9.2; Vs(Max)(V): 11; Vs(Min)(V): 3; DatasheetVersion: SBOS309D; PackageVersion: 4073329/E, 05/2006; PackageReference: DGK8; PackageDescription: 8-Pin Thin Small Outline, Body 3 x 3 mm, Pitch 0.65 mm; Supplier 1: Digi-Key; Supplier Part Number 1: OPA2830IDGKR-ND; Supplier 2: Newark; Supplier Part Number 2: 31K7194; Supplier 3: Mouser; Supplier Part Number 3: 595-OPA2830IDGKR; Eco-Plan: Green (RoHS & no Sb/Br); Mounting Technology: Surface Mount; Code_JEDEC: MO-187; ComponentLink1Description: Manufacturer URL; ComponentLink1URL: http://www.ti.com/; ComponentLink2Description: Datasheet; ComponentLink2URL: http://www.ti.com/general/docs/lit/getliterature.tsp?genericPartNumber=OPA2830&fileType=pdf; ComponentLink3Description: Package Specification; ComponentLink3URL: http://www.ti.com/litv/pdf/mpds028d
footprint TI-DGK8_N (SOP, 8-Leads, Body 3x3mm, Pitch 0.65mm, IPC Medium Density)
footprint TI-DGK8_L (SOP, 8-Leads, Body 3x3mm, Pitch 0.65mm, IPC High Density)
footprint TI-DGK8_M (SOP, 8-Leads, Body 3x3mm, Pitch 0.65mm, IPC Low Density)
pins on every part: 4 VS- (power), 8 VS+ (power)
part A pins: 1 OUT1 (out), 2 IN1- (in), 3 IN1+ (in)
part B pins: 5 IN2+ (in), 6 IN2- (in), 7 OUT2 (out)

## OPA2830IDGKRG4
designator U?
Dual, Low-Power, Single-Supply Wideband Operational Amplifier, 3 to 11 V, -40 to 85 degC, 8-pin SOP (DGK8), Green (RoHS & no Sb/Br); Manufacturer: Texas Instruments; PartNumber: OPA2830IDGKRG4; Acl, min stable gain(V/V): 1; BW @ Acl(MHz): 230; Iib(Max)(nA): 10000; Io(Typ)(mA): 75; Iq per channel(Max)(mA): 3.9; Number of Channels: 2; Rail-Rail: Out; Slew Rate(Typ)(V/us): 500; Sub Family: High Output Current Amplifier (>=50mA), High Speed Amplifier (>=50MHz); Vio(Max)(mV): 5.5; Vn at Flatband(Typ)(nV/rtHz): 9.2; Vs(Max)(V): 11; Vs(Min)(V): 3; DatasheetVersion: SBOS309D; PackageVersion: 4073329/E, 05/2006; PackageReference: DGK8; PackageDescription: 8-Pin Thin Small Outline, Body 3 x 3 mm, Pitch 0.65 mm; Supplier 1: Digi-Key; Supplier Part Number 1: OPA2830IDGKRG4-ND; Supplier 2: Mouser; Supplier Part Number 2: 595-OPA2830IDGKRG4; Eco-Plan: Green (RoHS & no Sb/Br); Mounting Technology: Surface Mount; Code_JEDEC: MO-187; ComponentLink1Description: Manufacturer URL; ComponentLink1URL: http://www.ti.com/; ComponentLink2Description: Datasheet; ComponentLink2URL: http://www.ti.com/general/docs/lit/getliterature.tsp?genericPartNumber=OPA2830&fileType=pdf; ComponentLink3Description: Package Specification; ComponentLink3URL: http://www.ti.com/litv/pdf/mpds028d
footprint TI-DGK8_N (SOP, 8-Leads, Body 3x3mm, Pitch 0.65mm, IPC Medium Density)
footprint TI-DGK8_L (SOP, 8-Leads, Body 3x3mm, Pitch 0.65mm, IPC High Density)
footprint TI-DGK8_M (SOP, 8-Leads, Body 3x3mm, Pitch 0.65mm, IPC Low Density)
pins on every part: 4 VS- (power), 8 VS+ (power)
part A pins: 1 OUT1 (out), 2 IN1- (in), 3 IN1+ (in)
part B pins: 5 IN2+ (in), 6 IN2- (in), 7 OUT2 (out)

## OPA2830IDGKT
designator U?
Dual, Low-Power, Single-Supply Wideband Operational Amplifier, 3 to 11 V, -40 to 85 degC, 8-pin SOP (DGK8), Green (RoHS & no Sb/Br); Manufacturer: Texas Instruments; PartNumber: OPA2830IDGKT; Acl, min stable gain(V/V): 1; BW @ Acl(MHz): 230; Iib(Max)(nA): 10000; Io(Typ)(mA): 75; Iq per channel(Max)(mA): 3.9; Number of Channels: 2; Rail-Rail: Out; Slew Rate(Typ)(V/us): 500; Sub Family: High Output Current Amplifier (>=50mA), High Speed Amplifier (>=50MHz); Vio(Max)(mV): 5.5; Vn at Flatband(Typ)(nV/rtHz): 9.2; Vs(Max)(V): 11; Vs(Min)(V): 3; DatasheetVersion: SBOS309D; PackageVersion: 4073329/E, 05/2006; PackageReference: DGK8; PackageDescription: 8-Pin Thin Small Outline, Body 3 x 3 mm, Pitch 0.65 mm; Supplier 1: Digi-Key; Supplier Part Number 1: 296-17958-2-ND; Supplier 2: Digi-Key; Supplier Part Number 2: 296-17958-1-ND; Supplier 3: Digi-Key; Supplier Part Number 3: 296-17958-6-ND; Supplier 4: Newark; Supplier Part Number 4: 31K7195; Supplier 5: Mouser; Supplier Part Number 5: 595-OPA2830IDGKT; Eco-Plan: Green (RoHS & no Sb/Br); Mounting Technology: Surface Mount; Code_JEDEC: MO-187; ComponentLink1Description: Manufacturer URL; ComponentLink1URL: http://www.ti.com/; ComponentLink2Description: Datasheet; ComponentLink2URL: http://www.ti.com/general/docs/lit/getliterature.tsp?genericPartNumber=OPA2830&fileType=pdf; ComponentLink3Description: Package Specification; ComponentLink3URL: http://www.ti.com/litv/pdf/mpds028d
footprint TI-DGK8_N (SOP, 8-Leads, Body 3x3mm, Pitch 0.65mm, IPC Medium Density)
footprint TI-DGK8_L (SOP, 8-Leads, Body 3x3mm, Pitch 0.65mm, IPC High Density)
footprint TI-DGK8_M (SOP, 8-Leads, Body 3x3mm, Pitch 0.65mm, IPC Low Density)
pins on every part: 4 VS- (power), 8 VS+ (power)
part A pins: 1 OUT1 (out), 2 IN1- (in), 3 IN1+ (in)
part B pins: 5 IN2+ (in), 6 IN2- (in), 7 OUT2 (out)

## OPA2830IDGKTG4
designator U?
Dual, Low-Power, Single-Supply Wideband Operational Amplifier, 3 to 11 V, -40 to 85 degC, 8-pin SOP (DGK8), Green (RoHS & no Sb/Br); Manufacturer: Texas Instruments; PartNumber: OPA2830IDGKTG4; Acl, min stable gain(V/V): 1; BW @ Acl(MHz): 230; Iib(Max)(nA): 10000; Io(Typ)(mA): 75; Iq per channel(Max)(mA): 3.9; Number of Channels: 2; Rail-Rail: Out; Slew Rate(Typ)(V/us): 500; Sub Family: High Output Current Amplifier (>=50mA), High Speed Amplifier (>=50MHz); Vio(Max)(mV): 5.5; Vn at Flatband(Typ)(nV/rtHz): 9.2; Vs(Max)(V): 11; Vs(Min)(V): 3; DatasheetVersion: SBOS309D; PackageVersion: 4073329/E, 05/2006; PackageReference: DGK8; PackageDescription: 8-Pin Thin Small Outline, Body 3 x 3 mm, Pitch 0.65 mm; Supplier 1: Digi-Key; Supplier Part Number 1: OPA2830IDGKTG4-ND; Supplier 2: Mouser; Supplier Part Number 2: 595-OPA2830IDGKTG4; Eco-Plan: Green (RoHS & no Sb/Br); Mounting Technology: Surface Mount; Code_JEDEC: MO-187; ComponentLink1Description: Manufacturer URL; ComponentLink1URL: http://www.ti.com/; ComponentLink2Description: Datasheet; ComponentLink2URL: http://www.ti.com/general/docs/lit/getliterature.tsp?genericPartNumber=OPA2830&fileType=pdf; ComponentLink3Description: Package Specification; ComponentLink3URL: http://www.ti.com/litv/pdf/mpds028d
footprint TI-DGK8_N (SOP, 8-Leads, Body 3x3mm, Pitch 0.65mm, IPC Medium Density)
footprint TI-DGK8_L (SOP, 8-Leads, Body 3x3mm, Pitch 0.65mm, IPC High Density)
footprint TI-DGK8_M (SOP, 8-Leads, Body 3x3mm, Pitch 0.65mm, IPC Low Density)
pins on every part: 4 VS- (power), 8 VS+ (power)
part A pins: 1 OUT1 (out), 2 IN1- (in), 3 IN1+ (in)
part B pins: 5 IN2+ (in), 6 IN2- (in), 7 OUT2 (out)

## OPA2830IDR
designator U?
Dual, Low-Power, Single-Supply Wideband Operational Amplifier, 3 to 11 V, -40 to 85 degC, 8-pin SOIC (D8), Green (RoHS & no Sb/Br); Manufacturer: Texas Instruments; PartNumber: OPA2830IDR; Acl, min stable gain(V/V): 1; BW @ Acl(MHz): 230; Iib(Max)(nA): 10000; Io(Typ)(mA): 75; Iq per channel(Max)(mA): 3.9; Number of Channels: 2; Rail-Rail: Out; Slew Rate(Typ)(V/us): 500; Sub Family: High Output Current Amplifier (>=50mA), High Speed Amplifier (>=50MHz); Vio(Max)(mV): 5.5; Vn at Flatband(Typ)(nV/rtHz): 9.2; Vs(Max)(V): 11; Vs(Min)(V): 3; DatasheetVersion: SBOS309D; PackageVersion: 4040047-3/M, 06/2011; PackageReference: D8; PackageDescription: 8-Pin Plastic Small Outline, Body 4.9 x 3.9 mm, Pitch 1.27 mm; Supplier 1: Digi-Key; Supplier Part Number 1: OPA2830IDR-ND; Supplier 2: Newark; Supplier Part Number 2: 31K7196; Supplier 3: Mouser; Supplier Part Number 3: 595-OPA2830IDR; Eco-Plan: Green (RoHS & no Sb/Br); Mounting Technology: Surface Mount; Code_JEDEC: MS-012; ComponentLink1Description: Manufacturer URL; ComponentLink1URL: http://www.ti.com/; ComponentLink2Description: Datasheet; ComponentLink2URL: http://www.ti.com/general/docs/lit/getliterature.tsp?genericPartNumber=OPA2830&fileType=pdf; ComponentLink3Description: Package Specification; ComponentLink3URL: http://www.ti.com/litv/pdf/msoi002j
footprint TI-D8_N (SOIC, 8-Leads, Body 4.9x3.9mm, Pitch 1.27mm, IPC Medium Density)
footprint TI-D8_L (SOIC, 8-Leads, Body 4.9x3.9mm, Pitch 1.27mm, IPC High Density)
footprint TI-D8_M (SOIC, 8-Leads, Body 4.9x3.9mm, Pitch 1.27mm, IPC Low Density)
pins on every part: 4 VS- (power), 8 VS+ (power)
part A pins: 1 OUT1 (out), 2 IN1- (in), 3 IN1+ (in)
part B pins: 5 IN2+ (in), 6 IN2- (in), 7 OUT2 (out)

## OPA2830IDRG4
designator U?
Dual, Low-Power, Single-Supply Wideband Operational Amplifier, 3 to 11 V, -40 to 85 degC, 8-pin SOIC (D8), Green (RoHS & no Sb/Br); Manufacturer: Texas Instruments; PartNumber: OPA2830IDRG4; 2nd Harmonic(dBc): 62; 3rd Harmonic(dBc): 59; Acl, min stable gain(V/V): 1; BW @ Acl(MHz): 290; Diff Gain(%): 0.07; Diff Phase(deg): 0.17; Iib(Max)(nA): 13000; Io(Typ)(mA): 82; Iq per channel(Max)(mA): 3.9; Number of Channels: 2; Settling Time (0.1%)(Typ)(ns): 43; Slew Rate(Typ)(V/us): 560; Sub Family: High Output Current Amplifier (>=50mA), High Speed Amplifier (>=50MHz); Vio(Max)(mV): 9.3; Vn at Flatband(Typ)(nV/rtHz): 9.5; Vs(Max)(V): 11; Vs(Min)(V): 3; DatasheetVersion: SBOS309D; PackageVersion: 4040047-3/M, 06/2011; PackageReference: D8; PackageDescription: 8-Pin Plastic Small Outline, Body 4.9 x 3.9 mm, Pitch 1.27 mm; Supplier 1: Digi-Key; Supplier Part Number 1: OPA2830IDRG4-ND; Supplier 2: Mouser; Supplier Part Number 2: 595-OPA2830IDRG4; Eco-Plan: Green (RoHS & no Sb/Br); Mounting Technology: Surface Mount; Code_JEDEC: MS-012; ComponentLink1Description: Manufacturer URL; ComponentLink1URL: http://www.ti.com/; ComponentLink2Description: Datasheet; ComponentLink2URL: http://www.ti.com/general/docs/lit/getliterature.tsp?genericPartNumber=OPA2830&fileType=pdf; ComponentLink3Description: Package Specification; ComponentLink3URL: http://www.ti.com/litv/pdf/msoi002j
footprint TI-D8_N (SOIC, 8-Leads, Body 4.9x3.9mm, Pitch 1.27mm, IPC Medium Density)
footprint TI-D8_L (SOIC, 8-Leads, Body 4.9x3.9mm, Pitch 1.27mm, IPC High Density)
footprint TI-D8_M (SOIC, 8-Leads, Body 4.9x3.9mm, Pitch 1.27mm, IPC Low Density)
pins on every part: 4 VS- (power), 8 VS+ (power)
part A pins: 1 OUT1 (out), 2 IN1- (in), 3 IN1+ (in)
part B pins: 5 IN2+ (in), 6 IN2- (in), 7 OUT2 (out)

## OPA2832ID
designator U?
Dual, Low Power, High-Speed, Fixed Gain Operational Amplifier, 3 to 11 V, -40 to 85 degC, 8-pin SOIC (D8), Green (RoHS & no Sb/Br); Manufacturer: Texas Instruments; PartNumber: OPA2832ID; 2nd Harmonic(dBc): 62; 3rd Harmonic(dBc): 72; Acl, min stable gain(V/V): 1; BW @ Acl(MHz): 210; Diff Gain(%): 0.11; Diff Phase(deg): 0.14; Iib(Max)(nA): 10000; Io(Typ)(mA): 75; Iq per channel(Max)(mA): 3.9; Number of Channels: 2; Rail-Rail: Out; Settling Time (0.1%)(Typ)(ns): 46; Slew Rate(Typ)(V/us): 320; Sub Family: High Output Current Amplifier (>=50mA), High Speed Amplifier (>=50MHz); Vio(Max)(mV): 6; Vn at Flatband(Typ)(nV/rtHz): 9.3; Vs(Max)(V): 11; Vs(Min)(V): 3; DatasheetVersion: SBOS327C; PackageVersion: 4040047-3/M, 06/2011; PackageReference: D8; PackageDescription: 8-Pin Plastic Small Outline, Body 4.9 x 3.9 mm, Pitch 1.27 mm; Supplier 1: Digi-Key; Supplier Part Number 1: 296-18002-5-ND; Supplier 2: Newark; Supplier Part Number 2: 31K7197; Supplier 3: Mouser; Supplier Part Number 3: 595-OPA2832ID; Eco-Plan: Green (RoHS & no Sb/Br); Mounting Technology: Surface Mount; Code_JEDEC: MS-012; ComponentLink1Description: Manufacturer URL; ComponentLink1URL: http://www.ti.com/; ComponentLink2Description: Datasheet; ComponentLink2URL: http://www.ti.com/general/docs/lit/getliterature.tsp?genericPartNumber=OPA2832&fileType=pdf; ComponentLink3Description: Package Specification; ComponentLink3URL: http://www.ti.com/litv/pdf/msoi002j
footprint TI-D8_N (SOIC, 8-Leads, Body 4.9x3.9mm, Pitch 1.27mm, IPC Medium Density)
footprint TI-D8_L (SOIC, 8-Leads, Body 4.9x3.9mm, Pitch 1.27mm, IPC High Density)
footprint TI-D8_M (SOIC, 8-Leads, Body 4.9x3.9mm, Pitch 1.27mm, IPC Low Density)
pins on every part: 4 VS- (power), 8 VS+ (power)
part A pins: 1 OUT1 (out), 2 IN1- (in), 3 IN1+ (in)
part B pins: 5 IN2+ (in), 6 IN2- (in), 7 OUT2 (out)

## OPA2832IDG4
designator U?
Dual, Low Power, High-Speed, Fixed Gain Operational Amplifier, 3 to 11 V, -40 to 85 degC, 8-pin SOIC (D8), Green (RoHS & no Sb/Br); Manufacturer: Texas Instruments; PartNumber: OPA2832IDG4; 2nd Harmonic(dBc): 62; 3rd Harmonic(dBc): 72; Acl, min stable gain(V/V): 1; BW @ Acl(MHz): 210; Diff Gain(%): 0.11; Diff Phase(deg): 0.14; Iib(Max)(nA): 10000; Io(Typ)(mA): 75; Iq per channel(Max)(mA): 3.9; Number of Channels: 2; Rail-Rail: Out; Settling Time (0.1%)(Typ)(ns): 46; Slew Rate(Typ)(V/us): 320; Sub Family: High Output Current Amplifier (>=50mA), High Speed Amplifier (>=50MHz); Vio(Max)(mV): 6; Vn at Flatband(Typ)(nV/rtHz): 9.3; Vs(Max)(V): 11; Vs(Min)(V): 3; DatasheetVersion: SBOS327C; PackageVersion: 4040047-3/M, 06/2011; PackageReference: D8; PackageDescription: 8-Pin Plastic Small Outline, Body 4.9 x 3.9 mm, Pitch 1.27 mm; Supplier 1: Digi-Key; Supplier Part Number 1: OPA2832IDG4-ND; Supplier 2: Mouser; Supplier Part Number 2: 595-OPA2832IDG4; Eco-Plan: Green (RoHS & no Sb/Br); Mounting Technology: Surface Mount; Code_JEDEC: MS-012; ComponentLink1Description: Manufacturer URL; ComponentLink1URL: http://www.ti.com/; ComponentLink2Description: Datasheet; ComponentLink2URL: http://www.ti.com/general/docs/lit/getliterature.tsp?genericPartNumber=OPA2832&fileType=pdf; ComponentLink3Description: Package Specification; ComponentLink3URL: http://www.ti.com/litv/pdf/msoi002j
footprint TI-D8_N (SOIC, 8-Leads, Body 4.9x3.9mm, Pitch 1.27mm, IPC Medium Density)
footprint TI-D8_L (SOIC, 8-Leads, Body 4.9x3.9mm, Pitch 1.27mm, IPC High Density)
footprint TI-D8_M (SOIC, 8-Leads, Body 4.9x3.9mm, Pitch 1.27mm, IPC Low Density)
pins on every part: 4 VS- (power), 8 VS+ (power)
part A pins: 1 OUT1 (out), 2 IN1- (in), 3 IN1+ (in)
part B pins: 5 IN2+ (in), 6 IN2- (in), 7 OUT2 (out)

## OPA2832IDGKT
designator U?
Dual, Low Power, High-Speed, Fixed Gain Operational Amplifier, 3 to 11 V, -40 to 85 degC, 8-pin SOP (DGK8), Green (RoHS & no Sb/Br); Manufacturer: Texas Instruments; PartNumber: OPA2832IDGKT; 2nd Harmonic(dBc): 62; 3rd Harmonic(dBc): 72; Acl, min stable gain(V/V): 1; BW @ Acl(MHz): 210; Diff Gain(%): 0.11; Diff Phase(deg): 0.14; Iib(Max)(nA): 10000; Io(Typ)(mA): 75; Iq per channel(Max)(mA): 3.9; Number of Channels: 2; Rail-Rail: Out; Settling Time (0.1%)(Typ)(ns): 46; Slew Rate(Typ)(V/us): 320; Sub Family: High Output Current Amplifier (>=50mA), High Speed Amplifier (>=50MHz); Vio(Max)(mV): 6; Vn at Flatband(Typ)(nV/rtHz): 9.3; Vs(Max)(V): 11; Vs(Min)(V): 3; DatasheetVersion: SBOS327C; PackageVersion: 4073329/E, 05/2006; PackageReference: DGK8; PackageDescription: 8-Pin Thin Small Outline, Body 3 x 3 mm, Pitch 0.65 mm; Supplier 1: Digi-Key; Supplier Part Number 1: 296-18003-2-ND; Supplier 2: Digi-Key; Supplier Part Number 2: 296-18003-1-ND; Supplier 3: Digi-Key; Supplier Part Number 3: 296-18003-6-ND; Supplier 4: Newark; Supplier Part Number 4: 31K7199; Supplier 5: Mouser; Supplier Part Number 5: 595-OPA2832IDGKT; Eco-Plan: Green (RoHS & no Sb/Br); Mounting Technology: Surface Mount; Code_JEDEC: MO-187; ComponentLink1Description: Manufacturer URL; ComponentLink1URL: http://www.ti.com/; ComponentLink2Description: Datasheet; ComponentLink2URL: http://www.ti.com/general/docs/lit/getliterature.tsp?genericPartNumber=OPA2832&fileType=pdf; ComponentLink3Description: Package Specification; ComponentLink3URL: http://www.ti.com/litv/pdf/mpds028d
footprint TI-DGK8_N (SOP, 8-Leads, Body 3x3mm, Pitch 0.65mm, IPC Medium Density)
footprint TI-DGK8_L (SOP, 8-Leads, Body 3x3mm, Pitch 0.65mm, IPC High Density)
footprint TI-DGK8_M (SOP, 8-Leads, Body 3x3mm, Pitch 0.65mm, IPC Low Density)
pins on every part: 4 VS- (power), 8 VS+ (power)
part A pins: 1 OUT1 (out), 2 IN1- (in), 3 IN1+ (in)
part B pins: 5 IN2+ (in), 6 IN2- (in), 7 OUT2 (out)

## OPA2832IDGKTG4
designator U?
Dual, Low Power, High-Speed, Fixed Gain Operational Amplifier, 3 to 11 V, -40 to 85 degC, 8-pin SOP (DGK8), Green (RoHS & no Sb/Br); Manufacturer: Texas Instruments; PartNumber: OPA2832IDGKTG4; 2nd Harmonic(dBc): 62; 3rd Harmonic(dBc): 72; Acl, min stable gain(V/V): 1; BW @ Acl(MHz): 210; Diff Gain(%): 0.11; Diff Phase(deg): 0.14; Iib(Max)(nA): 10000; Io(Typ)(mA): 75; Iq per channel(Max)(mA): 3.9; Number of Channels: 2; Rail-Rail: Out; Settling Time (0.1%)(Typ)(ns): 46; Slew Rate(Typ)(V/us): 320; Sub Family: High Output Current Amplifier (>=50mA), High Speed Amplifier (>=50MHz); Vio(Max)(mV): 6; Vn at Flatband(Typ)(nV/rtHz): 9.3; Vs(Max)(V): 11; Vs(Min)(V): 3; DatasheetVersion: SBOS327C; PackageVersion: 4073329/E, 05/2006; PackageReference: DGK8; PackageDescription: 8-Pin Thin Small Outline, Body 3 x 3 mm, Pitch 0.65 mm; Supplier 1: Digi-Key; Supplier Part Number 1: OPA2832IDGKTG4-ND; Supplier 2: Mouser; Supplier Part Number 2: 595-OPA2832IDGKTG4; Eco-Plan: Green (RoHS & no Sb/Br); Mounting Technology: Surface Mount; Code_JEDEC: MO-187; ComponentLink1Description: Manufacturer URL; ComponentLink1URL: http://www.ti.com/; ComponentLink2Description: Datasheet; ComponentLink2URL: http://www.ti.com/general/docs/lit/getliterature.tsp?genericPartNumber=OPA2832&fileType=pdf; ComponentLink3Description: Package Specification; ComponentLink3URL: http://www.ti.com/litv/pdf/mpds028d
footprint TI-DGK8_N (SOP, 8-Leads, Body 3x3mm, Pitch 0.65mm, IPC Medium Density)
footprint TI-DGK8_L (SOP, 8-Leads, Body 3x3mm, Pitch 0.65mm, IPC High Density)
footprint TI-DGK8_M (SOP, 8-Leads, Body 3x3mm, Pitch 0.65mm, IPC Low Density)
pins on every part: 4 VS- (power), 8 VS+ (power)
part A pins: 1 OUT1 (out), 2 IN1- (in), 3 IN1+ (in)
part B pins: 5 IN2+ (in), 6 IN2- (in), 7 OUT2 (out)